# Altium footprint library AdamsParts.PcbLib: 238 footprints (part 11 of 15)
Each footprint in its own frame and in the unit in brackets; x right, y up, seen from the top. Pads: shape width x height; smd on the part's side, far side on the other; paste and mask are expansions set on the pad; w line width, h text height; cw(c..) or ccw(c..) is an arc to the next point about the centre after c.
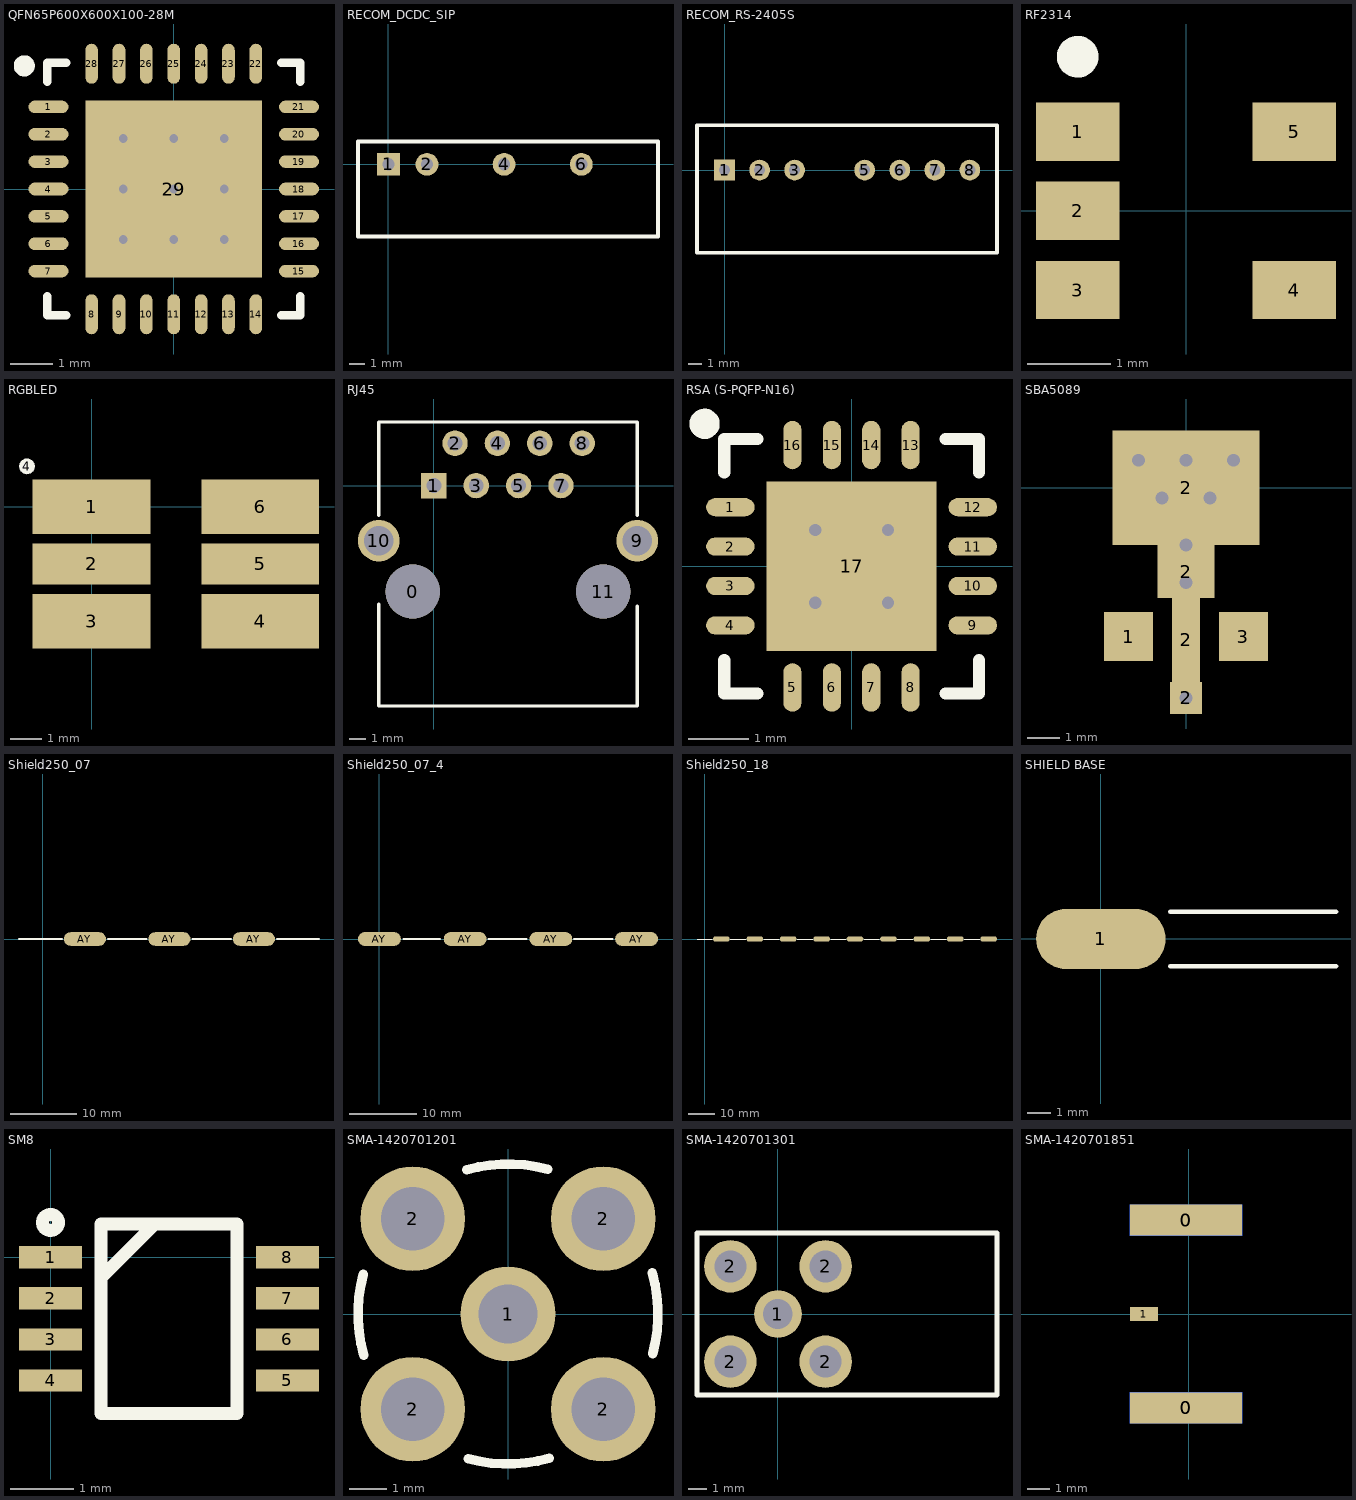
[diagram p10: the footprints below, top view; thin cyan lines are the x and y axes]

## QFN65P600X600X100-28M [mm] "QFN, 28-Leads, Body 6.0x6.0mm (max), Pitch 0.65mm, IPC Low Density"
height 1
pads (29):
  oval 0.95x0.3 smd: 1(-2.975,1.95) 2(-2.975,1.3) 3(-2.975,0.65) 4(-2.975,0) 5(-2.975,-0.65) 6(-2.975,-1.3) 7(-2.975,-1.95) 15(2.975,-1.95) 16(2.975,-1.3) 17(2.975,-0.65) 18(2.975,0) 19(2.975,0.65) 20(2.975,1.3) 21(2.975,1.95)
  oval 0.3x0.95 smd: 8(-1.95,-2.975) 9(-1.3,-2.975) 10(-0.65,-2.975) 11(0,-2.975) 12(0.65,-2.975) 13(1.3,-2.975) 14(1.95,-2.975) 22(1.95,2.975) 23(1.3,2.975) 24(0.65,2.975) 25(0,2.975) 26(-0.65,2.975) 27(-1.3,2.975) 28(-1.95,2.975)
  rect 4.2x4.2 smd: 29(0,0)
via 1.2,-1.2 diameter 0.406 hole 0.203
via 0,-1.2 diameter 0.406 hole 0.203
via -1.2,-1.2 diameter 0.406 hole 0.203
via 1.2,0 diameter 0.406 hole 0.203
via 0,0 diameter 0.406 hole 0.203
via -1.2,0 diameter 0.406 hole 0.203
via 1.2,1.2 diameter 0.406 hole 0.203
via 0,1.2 diameter 0.406 hole 0.203
via -1.2,1.2 diameter 0.406 hole 0.203
Top Overlay:
  circle w0.25: c-3.55,2.925 r0.125
  lines w0.2: -3,-2.55 -3,-3 -2.55,-3 ; -3,2.55 -3,3 -2.55,3 ; 2.55,-3 3,-3 3,-2.55 ; 2.55,3 3,3 3,2.55

## RECOM_DCDC_SIP [mm] "DC-DC Converter"
pads (4):
  rect 1.5x1.5 hole 0.8: 1(0,0)
  round 1.5 hole 0.8: 2(2.54,0) 4(7.62,0) 6(12.7,0)
Top Overlay:
  lines w0.254: -2,-4.75 -2,1.5 17.75,1.5 17.75,-4.75 -2,-4.75

## RECOM_RS-2405S [mm] "DC-DC Converter"
pads (7):
  rect 1.5x1.5 hole 0.8: 1(0,0)
  round 1.5 hole 0.8: 2(2.54,0) 3(5.08,0) 5(10.16,0) 6(12.7,0) 7(15.24,0) 8(17.78,0)
Top Overlay:
  lines w0.254: -2,-6 19.75,-6 19.75,3.25 -2,3.25 -2,-6

## RF2314 [mm] "SOT23, 5-Leads, Body 2.9x3.0mm (max), Pitch 0.95mm, IPC Medium Density"
height 1.44
pads (5):
  rect 1x0.7 smd: 1(-1.3,0.95) 2(-1.3,0) 3(-1.3,-0.95) 4(1.3,-0.95) 5(1.3,0.95)
Top Overlay:
  circle w0.25: c-1.3,1.85 r0.125

## RGBLED [mm]
pads (7):
  rect 3.7x1.7 smd: 1(0,0) 3(0,-3.6) 4(5.3,-3.6) 6(5.3,0)
  rect 3.7x1.3 smd: 2(0,-1.8) 5(5.3,-1.8)
  round 0.5 on Top Overlay: 4(-2.032,1.27)

## RJ45 [mil]
pads (12):
  round 128 hole 128 unplated: 0(-50,-250) 11(400,-250)
  rect 60x60 hole 35: 1(0,0)
  round 60 hole 35: 2(50,100) 3(100,0) 4(150,100) 5(200,0) 6(250,100) 7(300,0) 8(350,100)
  round 98 hole 69: 9(480,-130) 10(-130,-130)
Top Overlay:
  lines w7.87: -130,-280 -130,-520 480,-520 480,-285 ; -130,-70 -130,150 480,150 480,-70

## RSA (S-PQFP-N16) [mm] "QFN, 16-Leads, Body 4.2x4.2mm (max), Pitch 0.65mm, IPC Medium Density"
height 1
pads (17):
  oval 0.8x0.3 smd: 1(-2,0.975) 2(-2,0.325) 3(-2,-0.325) 4(-2,-0.975) 9(2,-0.975) 10(2,-0.325) 11(2,0.325) 12(2,0.975)
  oval 0.3x0.8 smd: 5(-0.975,-2) 6(-0.325,-2) 7(0.325,-2) 8(0.975,-2) 13(0.975,2) 14(0.325,2) 15(-0.325,2) 16(-0.975,2)
  rect 2.8x2.8 smd: 17(0,0)
via -0.6,0.6 diameter 0.66 hole 0.203
via 0.6,0.6 diameter 0.66 hole 0.203
via -0.6,-0.6 diameter 0.66 hole 0.203
via 0.6,-0.6 diameter 0.66 hole 0.203
Top Overlay:
  circle w0.25: c-2.425,2.35 r0.125
  lines w0.2: -2.1,-1.55 -2.1,-2.1 -1.55,-2.1 ; -2.1,1.55 -2.1,2.1 -1.55,2.1 ; 1.55,-2.1 2.1,-2.1 2.1,-1.55 ; 1.55,2.1 2.1,2.1 2.1,1.55

## SBA5089 [mm]
height 1.5
pads (6):
  rect 1.52x1.52 smd: 1(-1.78,-4.625) 3(1.78,-4.625)
  rect 1x1 smd: 2(0,-6.525)
  rect 0.86x2.61 smd: 2(0,-4.725)
  rect 1.78x1.65 smd: 2(0,-2.605)
  rect 4.57x3.56 smd: 2(0,0)
via 0.74,-0.325 diameter 0.64 hole 0.4
via -0.74,-0.325 diameter 0.64 hole 0.4
via -1.47,0.85 diameter 0.64 hole 0.4
via 1.47,0.85 diameter 0.64 hole 0.4
via 0,0.85 diameter 0.64 hole 0.4
via 0,-2.95 diameter 0.64 hole 0.4
via 0,-1.775 diameter 0.64 hole 0.4
via 0,-6.525 diameter 0.64 hole 0.4

## Shield250_07 [mil]
pads (3):
  oval 250x80 smd: AY(250,0) AY(750,0) AY(1250,0)
Top Overlay:
  lines w10: -140,0 115,0 ; 385,0 615,0 ; 885,0 1115,0 ; 1385,0 1635,0

## Shield250_07_4 [mil]
pads (4):
  oval 250x80 smd: AY(0,0) AY(500,0) AY(1000,0) AY(1500,0)
Top Overlay:
  lines w10: 140,0 355,0 ; 635,0 860,0 ; 1135,0 1360,0

## Shield250_18 [mil]
pads (9):
  oval 250x80 smd: AX(250,0) AX(750,0) AX(1250,0) AX(1750,0) AX(2250,0) AX(2750,0) AX(3250,0) AX(3750,0) AX(4250,0)
Top Overlay:
  lines w10: -115,0 115,0 ; 385,0 615,0 ; 885,0 1115,0 ; 1385,0 1615,0 ; 1890,0 2110,0 ; 2385,0 2615,0 ; 2885,0 3115,0 ; 3385,0 3615,0 ; 3885,0 4115,0

## SHIELD BASE [mil]
pads (1):
  oval 215x100 smd: 1(0,0)
Top Overlay:
  lines w7.87: 115,-45 390,-45 ; 115,45 390,45

## SM8 [mm]
pads (8):
  rect 1x0.35 smd: 1(0,0) 2(0,-0.65) 3(0,-1.3) 4(0,-1.95) 5(3.75,-1.95) 6(3.75,-1.3) 7(3.75,-0.65) 8(3.75,0)
Top Overlay:
  circle w0.203: c-0.002,0.55 r0.127
  lines w0.203: 0.8,-0.325 1.65,0.525 ; 0.8,-2.475 0.8,0.525 2.95,0.525 2.95,-2.475 0.8,-2.475

## SMA-1420701201 [mil] "SMA 1420701201 Ghz Connector"
pads (5):
  round 100 hole 62: 1(0,0)
  round 110 hole 67: 2(-100,-100) 2(-100,100) 2(100,-100) 2(100,100)
Top Overlay:
  lines w10: -151.84,41.76 ccw(c0,0) -151.4,-43.33 ; -43.33,151.4 cw(c0,0) 41.76,151.84 ; -41.76,-151.84 ccw(c0,0) 43.33,-151.4 ; 151.4,43.33 cw(c0,0) 151.84,-41.76

## SMA-1420701301 [mil] "SMA 1420701301 Ghz Connector"
pads (5):
  round 100 hole 62: 1(0,0)
  round 110 hole 67: 2(-100,-100) 2(-100,100) 2(100,-100) 2(100,100)
Top Overlay:
  lines w10: -170,-170 -170,170 460,170 460,50 460,-50 460,-170 -170,-170

## SMA-1420701851 [mil] "End launch SMA connector"
height 311.02
pads (5):
  rect 200x55 smd: 0(-5,-167) 0(-5,167)
  rect 200x55 smd far side: 0(-5,-167) 0(-5,167)
  rect 50x25 smd: 1(-80,0)